# Altium footprint library FlexPad_1.28x2.08.PcbLib: 1 footprints
Each footprint in its own frame and in the unit in brackets; x right, y up, seen from the top. Pads: shape width x height; smd on the part's side, far side on the other; paste and mask are expansions set on the pad; w line width, h text height; cw(c..) or ccw(c..) is an arc to the next point about the centre after c.
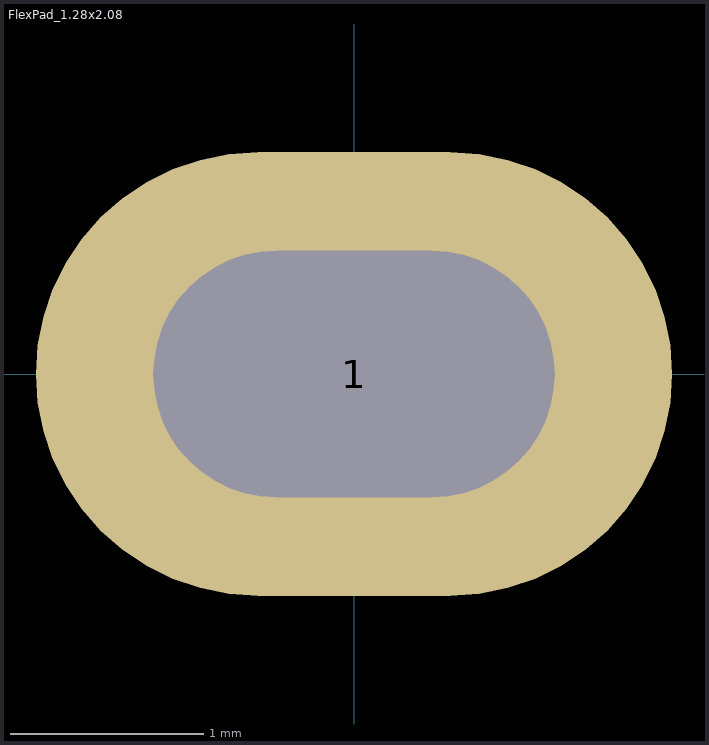
[diagram p0: the footprint, top view; thin cyan lines are the x and y axes]

## FlexPad_1.28x2.08 [mm]
pads (1):
  oval 3.3x2.3 hole 1.28 slot 2.08 at 0 deg mask-0.15: 1(0,0)
Drill Guide:
  lines w0.01: -1.206,0 ccw(c-0.826,0) -0.826,-0.381 0.826,-0.381 ccw(c0.826,0) 1.206,0 ccw(c0.826,0) 0.826,0.381 -0.826,0.381 ccw(c-0.826,0) -1.206,0